# Altium footprint library NRF.PcbLib: 2 footprints
Each footprint in its own frame and in the unit in brackets; x right, y up, seen from the top. Pads: shape width x height; smd on the part's side, far side on the other; paste and mask are expansions set on the pad; w line width, h text height; cw(c..) or ccw(c..) is an arc to the next point about the centre after c.
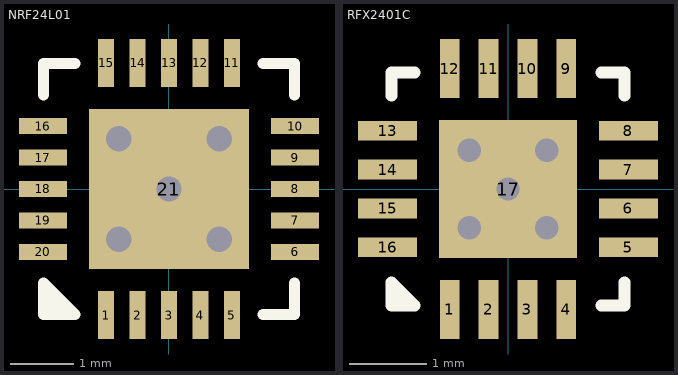
[diagram p0: the footprints below, top view; thin cyan lines are the x and y axes]

## NRF24L01 [mil]
pads (21):
  rect 10x30 smd: 1(-39.37,-79.02) 2(-19.68,-79.02) 3(0,-79.02) 4(19.69,-79.02) 5(39.37,-79.02) 11(39.37,79.02) 12(19.68,79.02) 13(0,79.02) 14(-19.68,79.02) 15(-39.37,79.02)
  rect 30x10 smd: 6(79,-39.37) 7(79,-19.68) 8(79,0) 9(79,19.69) 10(79,39.37) 16(-79,39.37) 17(-79,19.69) 18(-79,0) 19(-79,-19.68) 20(-79,-39.37)
  rect 100x100 smd: 21(0,0)
via 31.5,31.5 diameter 31.5 hole 15.75
via 31.5,-31.5 diameter 31.5 hole 15.75
via -31.5,-31.5 diameter 31.5 hole 15.75
via -31.5,31.5 diameter 31.5 hole 15.75
via 0,0 diameter 31.5 hole 15.75
Top Overlay:
  region: -78.74,-59.06 -78.74,-78.74 -59.06,-78.74
  lines w7: -78.74,59.06 -78.74,78.74 -59.06,78.74 ; 59.06,-78.74 78.74,-78.74 78.74,-59.06 ; 59.06,78.74 78.74,78.74 78.74,59.06 ; -78.74,-78.74 -78.74,-59.06 -59.06,-78.74 -78.74,-78.74
3D body "User Library-QFN20 4x4.STEP": height 28.35, standoff -0.39, extent -79.71,-79.72 79.71,79.7

## RFX2401C [mil]
pads (17):
  rect 10x30 smd: 1(-29.53,-61.02) 2(-9.84,-61.02) 3(9.84,-61.02) 4(29.53,-61.02) 9(29.53,61.02) 10(9.84,61.02) 11(-9.84,61.02) 12(-29.53,61.02)
  rect 30x10 smd: 5(61.02,-29.53) 6(61.02,-9.84) 7(61.02,9.84) 8(61.02,29.53) 13(-61.02,29.53) 14(-61.02,9.84) 15(-61.02,-9.84) 16(-61.02,-29.53)
  rect 70x70 smd: 17(0,0)
via 19.68,19.68 diameter 23.62 hole 11.81
via 19.68,-19.68 diameter 23.62 hole 11.81
via -19.68,-19.68 diameter 23.62 hole 11.81
via -19.68,19.68 diameter 23.62 hole 11.81
via 0,0 diameter 23.62 hole 11.81
Top Overlay:
  region: -59.06,-47.24 -59.06,-59.06 -47.24,-59.06
  lines w6: -59.06,47.24 -59.06,59.06 -47.24,59.06 ; 47.24,-59.06 59.06,-59.06 59.06,-47.24 ; 47.24,59.06 59.06,59.06 59.06,47.24 ; -59.06,-59.06 -47.24,-59.06 -59.06,-47.24 -59.06,-59.06
3D body "User Library-QFN-16.STEP": height 35.43, standoff 0, extent -60.96,-57.61 57.22,60.58